# Altium integrated library LF50ABDT.IntLib: 1 symbol
Pins are listed as number, name and electrical type; pins without a type are passive.

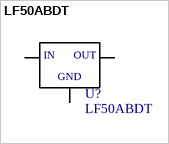
[diagram p0: symbol LF50ABDT]

## LF50ABDT
designator U?
Voltage stabiliser; LDO, fixed; 5V; 0.5A; DPAK; SMD; Package: rol; MP: LF50ABDT-TR; MF: STMicroelectronics; Package: TO-252-3 STMicroelectronics; Price: None; Availability: Unavailable; SnapEDA_Link: https://www.snapeda.com/parts/LF50ABDT-TR/STMicroelectronics/view-part/?ref=snap; Value: *
footprint *DPAK
pins: 1 VIN (io), 3 VOUT (io), 4 GND (io)
text: IN; OUT